# EAGLE library part USB5744 (library Microchip)
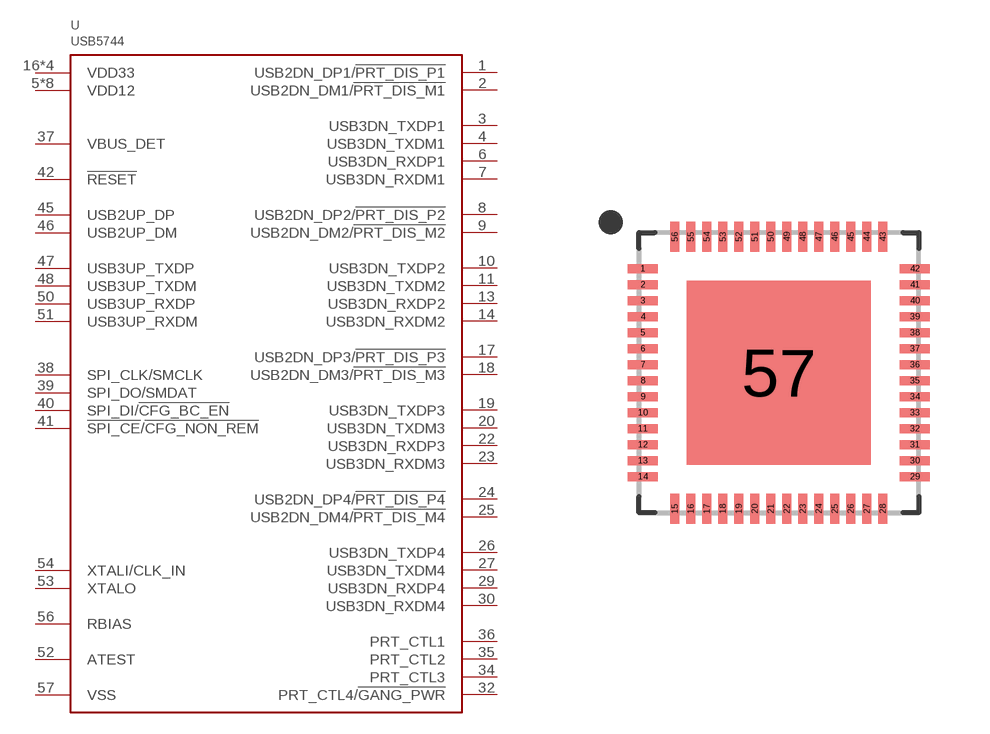
[diagram p51: symbol with the pads of VQFN56; footprint VQFN56]

Designator prefix U

## USB5744  [VQFN56]
1  USB2DN_DP1/!PRT_DIS_P1
2  USB2DN_DM1/!PRT_DIS_M1
3  USB3DN_TXDP1
4  USB3DN_TXDM1
5  VDD12  pwr
6  USB3DN_RXDP1
7  USB3DN_RXDM1
8  USB2DN_DP2/!PRT_DIS_P2
9  USB2DN_DM2/!PRT_DIS_M2
10  USB3DN_TXDP2
11  USB3DN_TXDM2
12  VDD12  pwr
13  USB3DN_RXDP2
14  USB3DN_RXDM2
15  VDD12  pwr
16  VDD33  pwr
17  USB2DN_DP3/!PRT_DIS_P3
18  USB2DN_DM3/!PRT_DIS_M3
19  USB3DN_TXDP3
20  USB3DN_TXDM3
21  VDD12  pwr
22  USB3DN_RXDP3
23  USB3DN_RXDM3
24  USB2DN_DP4/!PRT_DIS_P4
25  USB2DN_DM4/!PRT_DIS_M4
26  USB3DN_TXDP4
27  USB3DN_TXDM4
28  VDD12  pwr
29  USB3DN_RXDP4
30  USB3DN_RXDM4
31  VDD33  pwr
32  PRT_CTL4/!GANG_PWR
33  VDD12  pwr
34  PRT_CTL3
35  PRT_CTL2
36  PRT_CTL1
37  VBUS_DET
38  SPI_CLK/SMCLK
39  SPI_DO/SMDAT
40  SPI_DI/!CFG_BC_EN
41  !SPI_CE!/!CFG_NON_REM
42  !RESET
43  VDD12  pwr
44  VDD33  pwr
45  USB2UP_DP
46  USB2UP_DM
47  USB3UP_TXDP
48  USB3UP_TXDM
49  VDD12  pwr
50  USB3UP_RXDP
51  USB3UP_RXDM
52  ATEST
53  XTALO
54  XTALI/CLK_IN
55  VDD33  pwr
56  RBIAS
57  VSS  pwr

## Footprint VQFN56 (pad centres in mm)
smd 0.75 x 0.225: 1 -3.4,2.6; 2 -3.4,2.2; 3 -3.4,1.8; 4 -3.4,1.4; 5 -3.4,1; 6 -3.4,0.6; 7 -3.4,0.2; 8 -3.4,-0.2; 9 -3.4,-0.6; 10 -3.4,-1; 11 -3.4,-1.4; 12 -3.4,-1.8; 13 -3.4,-2.2; 14 -3.4,-2.6; 29 3.4,-2.6; 30 3.4,-2.2; 31 3.4,-1.8; 32 3.4,-1.4; 33 3.4,-1; 34 3.4,-0.6; 35 3.4,-0.2; 36 3.4,0.2; 37 3.4,0.6; 38 3.4,1; 39 3.4,1.4; 40 3.4,1.8; 41 3.4,2.2; 42 3.4,2.6
smd 0.225 x 0.75: 15 -2.6,-3.4; 16 -2.2,-3.4; 17 -1.8,-3.4; 18 -1.4,-3.4; 19 -1,-3.4; 20 -0.6,-3.4; 21 -0.2,-3.4; 22 0.2,-3.4; 23 0.6,-3.4; 24 1,-3.4; 25 1.4,-3.4; 26 1.8,-3.4; 27 2.2,-3.4; 28 2.6,-3.4; 43 2.6,3.4; 44 2.2,3.4; 45 1.8,3.4; 46 1.4,3.4; 47 1,3.4; 48 0.6,3.4; 49 0.2,3.4; 50 -0.2,3.4; 51 -0.6,3.4; 52 -1,3.4; 53 -1.4,3.4; 54 -1.8,3.4; 55 -2.2,3.4; 56 -2.6,3.4
smd 4.6 x 4.6: 57 0,0